# EAGLE library part ARDUINO_SERIAL_PROGRAM (library untitled)
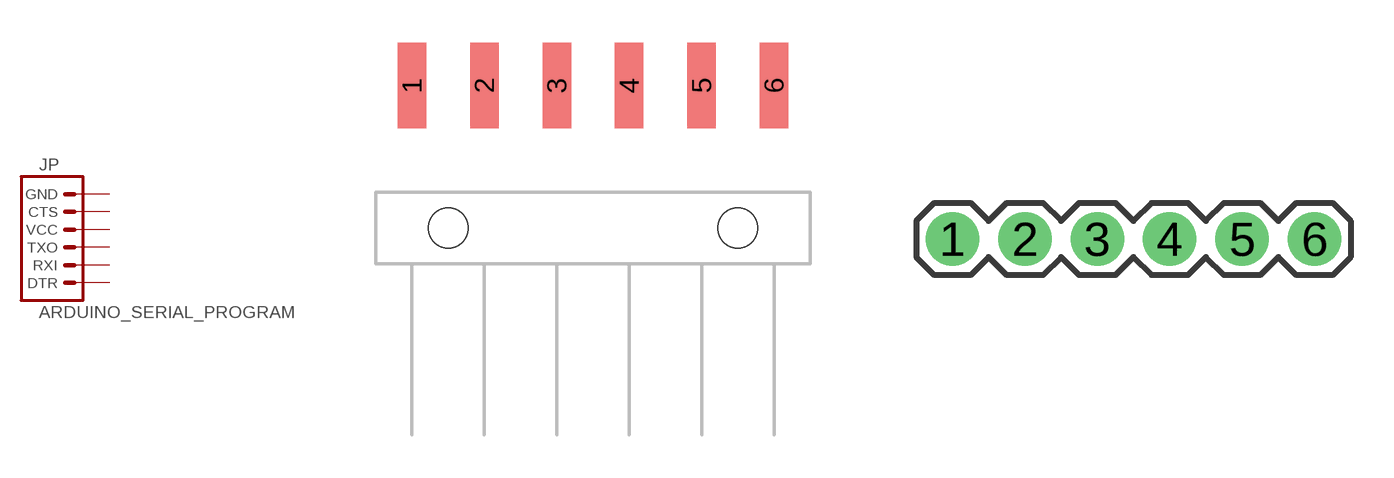
[diagram p150: symbol with the pads of 1X06-SMD; footprints 1X06-SMD, 1X06]

Designator prefix JP

## ARDUINO_SERIAL_PROGRAMSMD  [1X06-SMD]
1  DTR  pas
2  RXI  pas
3  TXO  pas
4  VCC  pas
5  CTS  pas
6  GND  pas

## ARDUINO_SERIAL_PROGRAMPTH  [1X06]
Pads as for 1X06-SMD

## ARDUINO_SERIAL_PROGRAMRA_LOCK  [MOLEX-1X6-RA_LOCK]
1  GND  pas
2  CTS  pas
3  VCC  pas
4  TXO  pas
5  RXI  pas
6  DTR  pas

## Footprint 1X06-SMD (pad centres in mm)
smd 1 x 3: 1 -6.35,5; 2 -3.81,5; 3 -1.27,5; 4 1.27,5; 5 3.81,5; 6 6.35,5
hole 1.4 at -5.08,0
hole 1.4 at 5.08,0

## Footprint 1X06 (pad centres in mm)
drill 1.016 pad 1.88 round: 1 0,0; 2 2.54,0; 3 5.08,0; 4 7.62,0; 5 10.16,0; 6 12.7,0

## Footprint MOLEX-1X6-RA_LOCK (pad centres in mm)
drill 1.016 pad 1.88 square: 1 0,0.127
drill 1.016 pad 1.88 round: 2 2.54,-0.127; 3 5.08,0.127; 4 7.62,-0.127; 5 10.16,0.127; 6 12.7,-0.127